# Altium footprint library 208658-1051.PcbLib: 1 footprints
Each footprint in its own frame and in the unit in brackets; x right, y up, seen from the top. Pads: shape width x height; smd on the part's side, far side on the other; paste and mask are expansions set on the pad; w line width, h text height; cw(c..) or ccw(c..) is an arc to the next point about the centre after c.
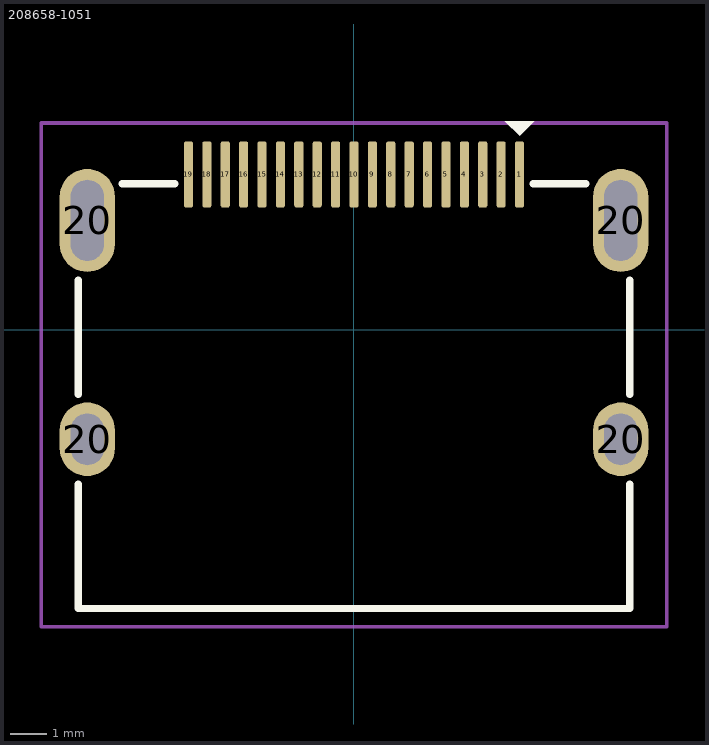
[diagram p0: the footprint, top view; thin cyan lines are the x and y axes]

## 208658-1051 [mm]
pads (23):
  rrect50% 0.25x1.8 smd: 1(4.5,4.225) 2(4,4.225) 3(3.5,4.225) 4(3,4.225) 5(2.5,4.225) 6(2,4.225) 7(1.5,4.225) 8(1,4.225) 9(0.5,4.225) 10(0,4.225) 11(-0.5,4.225) 12(-1,4.225) 13(-1.5,4.225) 14(-2,4.225) 15(-2.5,4.225) 16(-3,4.225) 17(-3.5,4.225) 18(-4,4.225) 19(-4.5,4.225)
  oval 1.5x2 hole 0.9 slot 1.4 at 90 deg: 20(-7.25,-2.975) 20(7.25,-2.975)
  oval 1.5x2.8 hole 0.9 slot 2.2 at 90 deg: 20(-7.25,2.975) 20(7.25,2.975)
Top Overlay:
  region: 4.1,5.675 4.9,5.675 4.5,5.275
  lines w0.2: -7.5,-4.2 -7.5,-7.575 7.5,-7.575 7.5,-4.2 ; -7.5,-1.75 -7.5,1.35 ; -6.3,3.975 -4.875,3.975 ; 4.875,3.975 6.3,3.975 ; 7.5,-1.75 7.5,1.35
Top Courtyard:
  lines w0.1: -8.5,-8.075 8.5,-8.075 8.5,5.625 -8.5,5.625 -8.5,-8.075
3D body "1827059-3.stp": height 6.08, standoff -2.2, extent -7.5,-7.576 7.5,4.524